# Altium integrated library Diodes - TVS.IntLib: 5379 symbols (part 60 of 122)
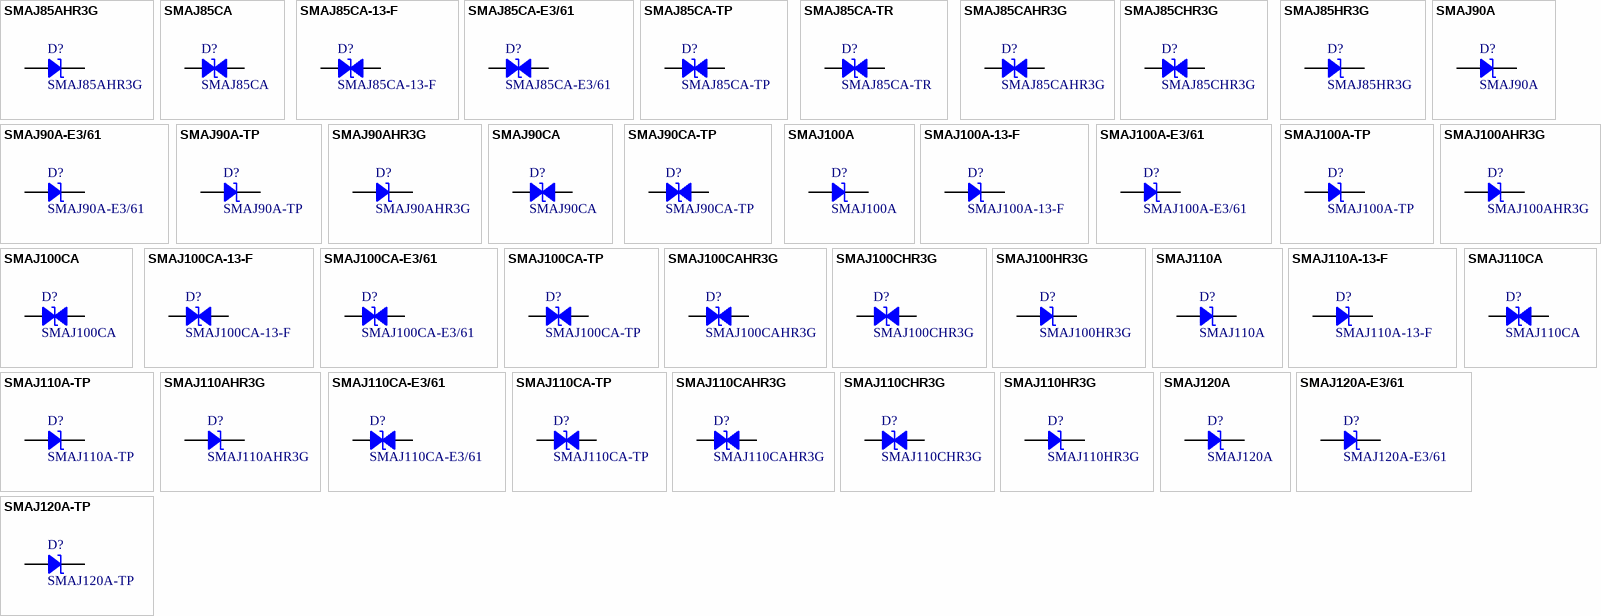
[diagram p193: symbols SMAJ85AHR3G to SMAJ120A-TP]

## SMAJ85CA-TR
designator D?
TVS DIODE 85V 178V SMA; Manufacturer: STMicroelectronics; Bidirectional Channels: 1; Current - Peak Pulse (10/1000µs): 13A (8/20µs); Power Line Protection: No; Power - Peak Pulse: 400W; Type: Zener; Voltage - Breakdown (Min): 94V; Part Number: SMAJ85CA-TR; Applications: General Purpose; ComponentLink1Description: Datasheet; ComponentLink1URL: http://www.st.com/content/ccc/resource/technical/document/datasheet/ff/c0/80/cc/19/4c/45/af/CD00001333.pdf/files/CD00001333.pdf/_jcr_content/translations/en.CD00001333.pdf; ComponentLink2Description: DigiKey Link; ComponentLink2URL: http://digikey.com/product-detail/en/stmicroelectronics/SMAJ85CA-TR/497-7897-1-ND/1883784; LastUpdated: 9/2/2020 1:27:52 AM; Lifecycle Status: Active; Minimum Order: 1; Mounting Type: Surface Mount; Operating Temperature: -55°C ~ 150°C (TJ); Package / Case: DO-214AC, SMA; Packaging: TapeAndReel; PartId: 7451; Part Status: Active; Price: 0.10; Series: SMAJ, TRANSIL™; Supplier 1: DigiKey; Supplier Part Number 1: 497-7897-1-ND; Supplier Device Package: SMA (DO-214AC); Voltage - Clamping (Max) @ Ipp: 178V; Voltage - Reverse Standoff (Typ): 85V
footprint DO214AC SMA
pins: 1, 2

## SMAJ85CAHR3G
designator D?
TVS DIODE 85V 137V DO214AC; Manufacturer: Taiwan Semiconductor Corporation; Bidirectional Channels: 1; Current - Peak Pulse (10/1000µs): 2.2A; Power Line Protection: No; Power - Peak Pulse: 400W; Type: Zener; Voltage - Breakdown (Min): 94.4V; Part Number: SMAJ85CAHR3G; Applications: Automotive; ComponentLink1Description: Datasheet; ComponentLink1URL: https://www.taiwansemi.com/products/datasheet/SMAJ%20SERIES_S1901.pdf; ComponentLink2Description: DigiKey Link; ComponentLink2URL: http://digikey.com/product-detail/en/taiwan-semiconductor-corporation/SMAJ85CAHR3G/SMAJ85CAHR3GCT-ND/10287984; LastUpdated: 9/2/2020 1:27:54 AM; Lifecycle Status: Active; Minimum Order: 1; Mounting Type: Surface Mount; Operating Temperature: -55°C ~ 150°C (TJ); Package / Case: DO-214AC, SMA; Packaging: TapeAndReel; PartId: 7676; Part Status: Active; Price: 0.12; Series: Automotive, AEC-Q101, SMAJ; Supplier 1: DigiKey; Supplier Part Number 1: SMAJ85CAHR3GCT-ND; Supplier Device Package: DO-214AC (SMA); Voltage - Clamping (Max) @ Ipp: 137V; Voltage - Reverse Standoff (Typ): 85V
footprint DO214AC SMA
pins: 1, 2

## SMAJ85CHR3G
designator D?
400W 104.7V 10% BIDIRECTIONAL TV; Manufacturer: Taiwan Semiconductor Corporation; Bidirectional Channels: 1; Current - Peak Pulse (10/1000µs): 2A; Power Line Protection: No; Type: Zener; Voltage - Breakdown (Min): 94.4V; Voltage - Clamping (Max) @ Ipp: 151V; Voltage - Reverse Standoff (Typ): 85V; Part Number: SMAJ85CHR3G; Applications: Automotive; ComponentLink1Description: Datasheet; ComponentLink1URL: https://www.taiwansemi.com/products/datasheet/SMAJ%20SERIES_S1901.pdf; ComponentLink2Description: DigiKey Link; ComponentLink2URL: http://digikey.com/product-detail/en/taiwan-semiconductor-corporation/SMAJ85CHR3G/SMAJ85CHR3GCT-ND/10287887; LastUpdated: 9/2/2020 1:27:54 AM; Lifecycle Status: Active; Minimum Order: 1; Mounting Type: Surface Mount; Operating Temperature: -55°C ~ 150°C (TJ); Package / Case: DO-214AC, SMA; Packaging: TapeAndReel; PartId: 7721; Part Status: Active; Power - Peak Pulse: 400W; Price: 0.11; Series: Automotive, AEC-Q101, SMAJ; Supplier 1: DigiKey; Supplier Part Number 1: SMAJ85CHR3GCT-ND; Supplier Device Package: DO-214AC (SMA)
footprint DO214AC SMA
pins: 1, 2

## SMAJ85HR3G
designator D?
400W 104.7V 10% UNIDIRECTIONAL T; Manufacturer: Taiwan Semiconductor Corporation; Current - Peak Pulse (10/1000µs): 2A; Power Line Protection: No; Type: Zener; Unidirectional Channels: 1; Voltage - Breakdown (Min): 94.4V; Voltage - Clamping (Max) @ Ipp: 151V; Voltage - Reverse Standoff (Typ): 85V; Part Number: SMAJ85HR3G; Applications: Automotive; ComponentLink1Description: Datasheet; ComponentLink1URL: https://www.taiwansemi.com/products/datasheet/SMAJ%20SERIES_S1901.pdf; ComponentLink2Description: DigiKey Link; ComponentLink2URL: http://digikey.com/product-detail/en/taiwan-semiconductor-corporation/SMAJ85HR3G/SMAJ85HR3GCT-ND/10287888; LastUpdated: 9/2/2020 1:20:16 AM; Lifecycle Status: Active; Minimum Order: 1; Mounting Type: Surface Mount; Operating Temperature: -55°C ~ 150°C (TJ); Package / Case: DO-214AC, SMA; Packaging: TapeAndReel; PartId: 5994; Part Status: Active; Power - Peak Pulse: 400W; Price: 0.12; Series: Automotive, AEC-Q101, SMAJ; Supplier 1: DigiKey; Supplier Part Number 1: SMAJ85HR3GCT-ND; Supplier Device Package: DO-214AC (SMA)
footprint DO214AC SMA
pins: 1, 2

## SMAJ90A
designator D?
TVS DIODE 90V 146V SMA; Manufacturer: AVX Corporation; Current - Peak Pulse (10/1000µs): 2.74A; Power Line Protection: No; Power - Peak Pulse: 400W; Type: Zener; Unidirectional Channels: 1; Voltage - Breakdown (Min): 100V; Part Number: SMAJ90A; Applications: General Purpose; ComponentLink1Description: Datasheet; ComponentLink1URL: //media.digikey.com/pdf/Data%20Sheets/AVX%20PDFs/Transient%20Suppression%20Diodes.pdf; ComponentLink2Description: DigiKey Link; ComponentLink2URL: http://digikey.com/product-detail/en/avx-corporation/SMAJ90A/478-7059-1-ND/3340336; LastUpdated: 9/2/2020 1:20:14 AM; Lifecycle Status: Active; Minimum Order: 1; Mounting Type: Surface Mount; Operating Temperature: -55°C ~ 150°C (TJ); Package / Case: DO-214AC, SMA; Packaging: TapeAndReel; PartId: 5678; Part Status: Active; Price: 0.10; Series: -; Supplier 1: DigiKey; Supplier Part Number 1: 478-7059-1-ND; Supplier Device Package: SMAJ (DO-214AC); Voltage - Clamping (Max) @ Ipp: 146V; Voltage - Reverse Standoff (Typ): 90V
footprint DO214AC SMA
pins: 1, 2

## SMAJ90A-E3/61
designator D?
TVS DIODE 90V 146V DO214AC; Manufacturer: Vishay Semiconductor Diodes Division; Current - Peak Pulse (10/1000µs): 2.1A; Power Line Protection: No; Power - Peak Pulse: 300W; Type: Zener; Unidirectional Channels: 1; Voltage - Breakdown (Min): 100V; Part Number: SMAJ90A-E3/61; Applications: General Purpose; ComponentLink1Description: Datasheet; ComponentLink1URL: http://www.vishay.com/docs/88390/smaj50a.pdf; ComponentLink2Description: DigiKey Link; ComponentLink2URL: http://digikey.com/product-detail/en/vishay-semiconductor-diodes-division/SMAJ90A-E3-61/SMAJ90A-E3-61GICT-ND/5639167; LastUpdated: 9/2/2020 1:20:18 AM; Lifecycle Status: Active; Minimum Order: 1; Mounting Type: Surface Mount; Operating Temperature: -55°C ~ 150°C (TJ); Package / Case: DO-214AC, SMA; Packaging: TapeAndReel; PartId: 6150; Part Status: Active; Price: 0.10; Series: TransZorb®; Supplier 1: DigiKey; Supplier Part Number 1: SMAJ90A-E3/61GICT-ND; Supplier Device Package: DO-214AC (SMA); Voltage - Clamping (Max) @ Ipp: 146V; Voltage - Reverse Standoff (Typ): 90V
footprint DO214AC SMA
pins: 1, 2

## SMAJ90A-TP
designator D?
TVS DIODE 90V 146V DO214AC; Manufacturer: Micro Commercial Co; Current - Peak Pulse (10/1000µs): 2.7A; Power Line Protection: No; Power - Peak Pulse: 400W; Type: Zener; Unidirectional Channels: 1; Voltage - Breakdown (Min): 100V; Part Number: SMAJ90A-TP; Applications: General Purpose; ComponentLink1Description: Datasheet; ComponentLink1URL: https://www.mccsemi.com/pdf/Products/SMAJ5.0~SMAJ440CA(SMA).pdf; ComponentLink2Description: DigiKey Link; ComponentLink2URL: http://digikey.com/product-detail/en/micro-commercial-co/SMAJ90A-TP/SMAJ90A-TPMSCT-ND/1200618; LastUpdated: 9/2/2020 1:20:17 AM; Lifecycle Status: Active; Minimum Order: 1; Mounting Type: Surface Mount; Operating Temperature: -55°C ~ 175°C (TA); Package / Case: DO-214AC, SMA; Packaging: TapeAndReel; PartId: 6111; Part Status: Active; Price: 0.10; Series: -; Supplier 1: DigiKey; Supplier Part Number 1: SMAJ90A-TPMSCT-ND; Supplier Device Package: DO-214AC (SMA); Voltage - Clamping (Max) @ Ipp: 146V; Voltage - Reverse Standoff (Typ): 90V
footprint DO214AC SMA
pins: 1, 2

## SMAJ90AHR3G
designator D?
TVS DIODE 90V 146V DO214AC; Manufacturer: Taiwan Semiconductor Corporation; Current - Peak Pulse (10/1000µs): 2.1A; Power Line Protection: No; Power - Peak Pulse: 400W; Type: Zener; Unidirectional Channels: 1; Voltage - Breakdown (Min): 100V; Part Number: SMAJ90AHR3G; Applications: Automotive; ComponentLink1Description: Datasheet; ComponentLink1URL: https://www.taiwansemi.com/products/datasheet/SMAJ%20SERIES_S1901.pdf; ComponentLink2Description: DigiKey Link; ComponentLink2URL: http://digikey.com/product-detail/en/taiwan-semiconductor-corporation/SMAJ90AHR3G/SMAJ90AHR3GCT-ND/10287987; LastUpdated: 9/2/2020 1:20:17 AM; Lifecycle Status: Active; Minimum Order: 1; Mounting Type: Surface Mount; Operating Temperature: -55°C ~ 150°C (TJ); Package / Case: DO-214AC, SMA; Packaging: TapeAndReel; PartId: 6029; Part Status: Active; Price: 0.11; Series: Automotive, AEC-Q101, SMAJ; Supplier 1: DigiKey; Supplier Part Number 1: SMAJ90AHR3GCT-ND; Supplier Device Package: DO-214AC (SMA); Voltage - Clamping (Max) @ Ipp: 146V; Voltage - Reverse Standoff (Typ): 90V
footprint DO214AC SMA
pins: 1, 2

## SMAJ90CA
designator D?
TVS DIODE 90V 146V SMA; Manufacturer: Bourns Inc.; Bidirectional Channels: 1; Current - Peak Pulse (10/1000µs): 2.7A; Power Line Protection: No; Power - Peak Pulse: 400W; Type: Zener; Voltage - Breakdown (Min): 100V; Part Number: SMAJ90CA; Applications: General Purpose; ComponentLink1Description: Datasheet; ComponentLink1URL: https://www.bourns.com/docs/Product-Datasheets/SMAJ.pdf; ComponentLink2Description: DigiKey Link; ComponentLink2URL: http://digikey.com/product-detail/en/bourns-inc/SMAJ90CA/SMAJ90CABCT-ND/2253560; LastUpdated: 9/2/2020 1:27:52 AM; Lifecycle Status: Active; Minimum Order: 1; Mounting Type: Surface Mount; Operating Temperature: -55°C ~ 150°C (TJ); Package / Case: DO-214AC, SMA; Packaging: TapeAndReel; PartId: 7464; Part Status: Active; Price: 0.09; Series: SMAJ; Supplier 1: DigiKey; Supplier Part Number 1: SMAJ90CABCT-ND; Supplier Device Package: SMA (DO-214AC); Voltage - Clamping (Max) @ Ipp: 146V; Voltage - Reverse Standoff (Typ): 90V
footprint DO214AC SMA
pins: 1, 2

## SMAJ90CA-TP
designator D?
TVS DIODE 90V 146V DO214AC; Manufacturer: Micro Commercial Co; Bidirectional Channels: 1; Current - Peak Pulse (10/1000µs): 2.7A; Power Line Protection: No; Power - Peak Pulse: 400W; Type: Zener; Voltage - Breakdown (Min): 100V; Part Number: SMAJ90CA-TP; Applications: General Purpose; ComponentLink1Description: Datasheet; ComponentLink1URL: https://www.mccsemi.com/pdf/Products/SMAJ5.0~SMAJ440CA(SMA).pdf; ComponentLink2Description: DigiKey Link; ComponentLink2URL: http://digikey.com/product-detail/en/micro-commercial-co/SMAJ90CA-TP/SMAJ90CA-TPMSCT-ND/1200619; LastUpdated: 9/2/2020 1:27:54 AM; Lifecycle Status: Active; Minimum Order: 1; Mounting Type: Surface Mount; Operating Temperature: -55°C ~ 175°C (TA); Package / Case: DO-214AC, SMA; Packaging: TapeAndReel; PartId: 7652; Part Status: Active; Price: 0.10; Series: -; Supplier 1: DigiKey; Supplier Part Number 1: SMAJ90CA-TPMSCT-ND; Supplier Device Package: DO-214AC (SMA); Voltage - Clamping (Max) @ Ipp: 146V; Voltage - Reverse Standoff (Typ): 90V
footprint DO214AC SMA
pins: 1, 2

## SMAJ100A
designator D?
TVS DIODE 100V 162V DO214AC; Manufacturer: Littelfuse Inc.; Current - Peak Pulse (10/1000µs): 2.5A; Power Line Protection: No; Power - Peak Pulse: 400W; Type: Zener; Unidirectional Channels: 1; Voltage - Breakdown (Min): 111V; Part Number: SMAJ100A; Applications: General Purpose; ComponentLink1Description: Datasheet; ComponentLink1URL: https://www.littelfuse.com/~/media/electronics/datasheets/tvs_diodes/littelfuse_tvs_diode_smaj_datasheet.pdf.pdf; ComponentLink2Description: DigiKey Link; ComponentLink2URL: http://digikey.com/product-detail/en/littelfuse-inc/SMAJ100A/SMAJ100ALFCT-ND/762538; LastUpdated: 9/2/2020 1:20:14 AM; Lifecycle Status: Active; Minimum Order: 1; Mounting Type: Surface Mount; Operating Temperature: -65°C ~ 150°C (TJ); Package / Case: DO-214AC, SMA; Packaging: TapeAndReel; PartId: 5757; Part Status: Active; Price: 0.09; Series: SMAJ; Supplier 1: DigiKey; Supplier Part Number 1: SMAJ100ALFCT-ND; Supplier Device Package: DO-214AC (SMA); Voltage - Clamping (Max) @ Ipp: 162V; Voltage - Reverse Standoff (Typ): 100V
footprint DO214AC SMA
pins: 1, 2

## SMAJ100A-13-F
designator D?
TVS DIODE 100V 162V SMA; Manufacturer: Diodes Incorporated; Current - Peak Pulse (10/1000µs): 2.5A; Power Line Protection: No; Power - Peak Pulse: 400W; Type: Zener; Unidirectional Channels: 1; Voltage - Breakdown (Min): 111V; Part Number: SMAJ100A-13-F; Applications: General Purpose; ComponentLink1Description: Datasheet; ComponentLink1URL: https://www.diodes.com/assets/Datasheets/ds19005.pdf; ComponentLink2Description: DigiKey Link; ComponentLink2URL: http://digikey.com/product-detail/en/diodes-incorporated/SMAJ100A-13-F/SMAJ100A-FDICT-ND/815994; LastUpdated: 9/2/2020 1:20:16 AM; Lifecycle Status: Active; Minimum Order: 1; Mounting Type: Surface Mount; Operating Temperature: -55°C ~ 150°C (TJ); Package / Case: DO-214AC, SMA; Packaging: TapeAndReel; PartId: 5954; Part Status: Active; Price: 0.08; Series: -; Supplier 1: DigiKey; Supplier Part Number 1: SMAJ100A-FDICT-ND; Supplier Device Package: SMA; Voltage - Clamping (Max) @ Ipp: 162V; Voltage - Reverse Standoff (Typ): 100V
footprint DO214AC SMA
pins: 1, 2

## SMAJ100A-E3/61
designator D?
TVS DIODE 100V 162V DO214AC; Manufacturer: Vishay Semiconductor Diodes Division; Current - Peak Pulse (10/1000µs): 1.9A; Power Line Protection: No; Power - Peak Pulse: 300W; Type: Zener; Unidirectional Channels: 1; Voltage - Breakdown (Min): 111V; Part Number: SMAJ100A-E3/61; Applications: General Purpose; ComponentLink1Description: Datasheet; ComponentLink1URL: http://www.vishay.com/docs/88390/smaj50a.pdf; ComponentLink2Description: DigiKey Link; ComponentLink2URL: http://digikey.com/product-detail/en/vishay-semiconductor-diodes-division/SMAJ100A-E3-61/SMAJ100A-E3-61GICT-ND/3711950; LastUpdated: 9/2/2020 1:20:13 AM; Lifecycle Status: Active; Minimum Order: 1; Mounting Type: Surface Mount; Operating Temperature: -55°C ~ 150°C (TJ); Package / Case: DO-214AC, SMA; Packaging: TapeAndReel; PartId: 5604; Part Status: Active; Price: 0.10; Series: TransZorb®; Supplier 1: DigiKey; Supplier Part Number 1: SMAJ100A-E3/61GICT-ND; Supplier Device Package: DO-214AC (SMA); Voltage - Clamping (Max) @ Ipp: 162V; Voltage - Reverse Standoff (Typ): 100V
footprint DO214AC SMA
pins: 1, 2

## SMAJ100A-TP
designator D?
TVS DIODE 100V 162V DO214AC; Manufacturer: Micro Commercial Co; Current - Peak Pulse (10/1000µs): 2.5A; Power Line Protection: No; Power - Peak Pulse: 400W; Type: Zener; Unidirectional Channels: 1; Voltage - Breakdown (Min): 111V; Part Number: SMAJ100A-TP; Applications: General Purpose; ComponentLink1Description: Datasheet; ComponentLink1URL: https://www.mccsemi.com/pdf/Products/SMAJ5.0~SMAJ440CA(SMA).pdf; ComponentLink2Description: DigiKey Link; ComponentLink2URL: http://digikey.com/product-detail/en/micro-commercial-co/SMAJ100A-TP/SMAJ100A-TPMSCT-ND/1200620; LastUpdated: 9/2/2020 1:20:15 AM; Lifecycle Status: Active; Minimum Order: 1; Mounting Type: Surface Mount; Operating Temperature: -55°C ~ 175°C (TA); Package / Case: DO-214AC, SMA; Packaging: TapeAndReel; PartId: 5784; Part Status: Active; Price: 0.10; Series: -; Supplier 1: DigiKey; Supplier Part Number 1: SMAJ100A-TPMSCT-ND; Supplier Device Package: DO-214AC (SMA); Voltage - Clamping (Max) @ Ipp: 162V; Voltage - Reverse Standoff (Typ): 100V
footprint DO214AC SMA
pins: 1, 2

## SMAJ100AHR3G
designator D?
TVS DIODE 100V 162V DO214AC; Manufacturer: Taiwan Semiconductor Corporation; Current - Peak Pulse (10/1000µs): 1.9A; Power Line Protection: No; Power - Peak Pulse: 400W; Type: Zener; Unidirectional Channels: 1; Voltage - Breakdown (Min): 111V; Part Number: SMAJ100AHR3G; Applications: Automotive; ComponentLink1Description: Datasheet; ComponentLink1URL: https://www.taiwansemi.com/products/datasheet/SMAJ%20SERIES_S1901.pdf; ComponentLink2Description: DigiKey Link; ComponentLink2URL: http://digikey.com/product-detail/en/taiwan-semiconductor-corporation/SMAJ100AHR3G/SMAJ100AHR3GCT-ND/10287895; LastUpdated: 9/2/2020 1:20:17 AM; Lifecycle Status: Active; Minimum Order: 1; Mounting Type: Surface Mount; Operating Temperature: -55°C ~ 150°C (TJ); Package / Case: DO-214AC, SMA; Packaging: TapeAndReel; PartId: 6074; Part Status: Active; Price: 0.11; Series: Automotive, AEC-Q101, SMAJ; Supplier 1: DigiKey; Supplier Part Number 1: SMAJ100AHR3GCT-ND; Supplier Device Package: DO-214AC (SMA); Voltage - Clamping (Max) @ Ipp: 162V; Voltage - Reverse Standoff (Typ): 100V
footprint DO214AC SMA
pins: 1, 2

## SMAJ100CA
designator D?
TVS DIODE 100V 162V DO214AC; Manufacturer: Littelfuse Inc.; Bidirectional Channels: 1; Current - Peak Pulse (10/1000µs): 2.5A; Power Line Protection: No; Power - Peak Pulse: 400W; Type: Zener; Voltage - Breakdown (Min): 111V; Part Number: SMAJ100CA; Applications: General Purpose; ComponentLink1Description: Datasheet; ComponentLink1URL: https://www.littelfuse.com/~/media/electronics/datasheets/tvs_diodes/littelfuse_tvs_diode_smaj_datasheet.pdf.pdf; ComponentLink2Description: DigiKey Link; ComponentLink2URL: http://digikey.com/product-detail/en/littelfuse-inc/SMAJ100CA/SMAJ100CALFCT-ND/762539; LastUpdated: 9/2/2020 1:27:52 AM; Lifecycle Status: Active; Minimum Order: 1; Mounting Type: Surface Mount; Operating Temperature: -65°C ~ 150°C (TJ); Package / Case: DO-214AC, SMA; Packaging: TapeAndReel; PartId: 7479; Part Status: Active; Price: 0.09; Series: SMAJ; Supplier 1: DigiKey; Supplier Part Number 1: SMAJ100CALFCT-ND; Supplier Device Package: DO-214AC (SMA); Voltage - Clamping (Max) @ Ipp: 162V; Voltage - Reverse Standoff (Typ): 100V
footprint DO214AC SMA
pins: 1, 2

## SMAJ100CA-13-F
designator D?
TVS DIODE 100V 162V SMA; Manufacturer: Diodes Incorporated; Bidirectional Channels: 1; Current - Peak Pulse (10/1000µs): 2.5A; Power Line Protection: No; Power - Peak Pulse: 400W; Type: Zener; Voltage - Breakdown (Min): 111V; Part Number: SMAJ100CA-13-F; Applications: General Purpose; ComponentLink1Description: Datasheet; ComponentLink1URL: https://www.diodes.com/assets/Datasheets/ds19005.pdf; ComponentLink2Description: DigiKey Link; ComponentLink2URL: http://digikey.com/product-detail/en/diodes-incorporated/SMAJ100CA-13-F/SMAJ100CA-FDICT-ND/815995; LastUpdated: 9/2/2020 1:27:55 AM; Lifecycle Status: Active; Minimum Order: 1; Mounting Type: Surface Mount; Operating Temperature: -55°C ~ 150°C (TJ); Package / Case: DO-214AC, SMA; Packaging: TapeAndReel; PartId: 7789; Part Status: Active; Price: 0.09; Series: -; Supplier 1: DigiKey; Supplier Part Number 1: SMAJ100CA-FDICT-ND; Supplier Device Package: SMA; Voltage - Clamping (Max) @ Ipp: 162V; Voltage - Reverse Standoff (Typ): 100V
footprint DO214AC SMA
pins: 1, 2

## SMAJ100CA-E3/61
designator D?
TVS DIODE 100V 162V DO214AC; Manufacturer: Vishay Semiconductor Diodes Division; Bidirectional Channels: 1; Current - Peak Pulse (10/1000µs): 1.9A; Power Line Protection: No; Power - Peak Pulse: 300W; Type: Zener; Voltage - Breakdown (Min): 111V; Part Number: SMAJ100CA-E3/61; Applications: General Purpose; ComponentLink1Description: Datasheet; ComponentLink1URL: http://www.vishay.com/docs/88390/smaj50a.pdf; ComponentLink2Description: DigiKey Link; ComponentLink2URL: http://digikey.com/product-detail/en/vishay-semiconductor-diodes-division/SMAJ100CA-E3-61/SMAJ100CA-E3-61GICT-ND/4764812; LastUpdated: 9/2/2020 1:27:50 AM; Lifecycle Status: Active; Minimum Order: 1; Mounting Type: Surface Mount; Operating Temperature: -55°C ~ 150°C (TJ); Package / Case: DO-214AC, SMA; Packaging: TapeAndReel; PartId: 7301; Part Status: Active; Price: 0.10; Series: TransZorb®; Supplier 1: DigiKey; Supplier Part Number 1: SMAJ100CA-E3/61GICT-ND; Supplier Device Package: DO-214AC (SMA); Voltage - Clamping (Max) @ Ipp: 162V; Voltage - Reverse Standoff (Typ): 100V
footprint DO214AC SMA
pins: 1, 2

## SMAJ100CA-TP
designator D?
TVS DIODE 100V 162V DO214AC; Manufacturer: Micro Commercial Co; Bidirectional Channels: 1; Current - Peak Pulse (10/1000µs): 2.5A; Power Line Protection: No; Power - Peak Pulse: 400W; Type: Zener; Voltage - Breakdown (Min): 111V; Part Number: SMAJ100CA-TP; Applications: General Purpose; ComponentLink1Description: Datasheet; ComponentLink1URL: https://www.mccsemi.com/pdf/Products/SMAJ5.0~SMAJ440CA(SMA).pdf; ComponentLink2Description: DigiKey Link; ComponentLink2URL: http://digikey.com/product-detail/en/micro-commercial-co/SMAJ100CA-TP/SMAJ100CA-TPMSCT-ND/1200621; LastUpdated: 9/2/2020 1:27:53 AM; Lifecycle Status: Active; Minimum Order: 1; Mounting Type: Surface Mount; Operating Temperature: -55°C ~ 175°C (TA); Package / Case: DO-214AC, SMA; Packaging: TapeAndReel; PartId: 7640; Part Status: Active; Price: 0.10; Series: -; Supplier 1: DigiKey; Supplier Part Number 1: SMAJ100CA-TPMSCT-ND; Supplier Device Package: DO-214AC (SMA); Voltage - Clamping (Max) @ Ipp: 162V; Voltage - Reverse Standoff (Typ): 100V
footprint DO214AC SMA
pins: 1, 2

## SMAJ100CAHR3G
designator D?
TVS DIODE 100V 162V DO214AC; Manufacturer: Taiwan Semiconductor Corporation; Bidirectional Channels: 1; Current - Peak Pulse (10/1000µs): 1.9A; Power Line Protection: No; Power - Peak Pulse: 400W; Type: Zener; Voltage - Breakdown (Min): 111V; Part Number: SMAJ100CAHR3G; Applications: Automotive; ComponentLink1Description: Datasheet; ComponentLink1URL: https://www.taiwansemi.com/products/datasheet/SMAJ%20SERIES_S1901.pdf; ComponentLink2Description: DigiKey Link; ComponentLink2URL: http://digikey.com/product-detail/en/taiwan-semiconductor-corporation/SMAJ100CAHR3G/SMAJ100CAHR3GCT-ND/10287896; LastUpdated: 9/2/2020 1:27:54 AM; Lifecycle Status: Active; Minimum Order: 1; Mounting Type: Surface Mount; Operating Temperature: -55°C ~ 150°C (TJ); Package / Case: DO-214AC, SMA; Packaging: TapeAndReel; PartId: 7718; Part Status: Active; Price: 0.12; Series: Automotive, AEC-Q101, SMAJ; Supplier 1: DigiKey; Supplier Part Number 1: SMAJ100CAHR3GCT-ND; Supplier Device Package: DO-214AC (SMA); Voltage - Clamping (Max) @ Ipp: 162V; Voltage - Reverse Standoff (Typ): 100V
footprint DO214AC SMA
pins: 1, 2

## SMAJ100CHR3G
designator D?
400W 123.5V 10% BIDIRECTIONAL TV; Manufacturer: Taiwan Semiconductor Corporation; Bidirectional Channels: 1; Current - Peak Pulse (10/1000µs): 1.7A; Power Line Protection: No; Type: Zener; Voltage - Breakdown (Min): 111V; Voltage - Clamping (Max) @ Ipp: 179V; Voltage - Reverse Standoff (Typ): 100V; Part Number: SMAJ100CHR3G; Applications: Automotive; ComponentLink1Description: Datasheet; ComponentLink1URL: https://www.taiwansemi.com/products/datasheet/SMAJ%20SERIES_S1901.pdf; ComponentLink2Description: DigiKey Link; ComponentLink2URL: http://digikey.com/product-detail/en/taiwan-semiconductor-corporation/SMAJ100CHR3G/SMAJ100CHR3GCT-ND/10287813; LastUpdated: 9/2/2020 1:27:54 AM; Lifecycle Status: Active; Minimum Order: 1; Mounting Type: Surface Mount; Operating Temperature: -55°C ~ 150°C (TJ); Package / Case: DO-214AC, SMA; Packaging: TapeAndReel; PartId: 7756; Part Status: Active; Power - Peak Pulse: 400W; Price: 0.11; Series: Automotive, AEC-Q101, SMAJ; Supplier 1: DigiKey; Supplier Part Number 1: SMAJ100CHR3GCT-ND; Supplier Device Package: DO-214AC (SMA)
footprint DO214AC SMA
pins: 1, 2

## SMAJ100HR3G
designator D?
400W 123.5V 10% UNIDIRECTIONAL T; Manufacturer: Taiwan Semiconductor Corporation; Current - Peak Pulse (10/1000µs): 1.7A; Power Line Protection: No; Type: Zener; Unidirectional Channels: 1; Voltage - Breakdown (Min): 111V; Voltage - Clamping (Max) @ Ipp: 179V; Voltage - Reverse Standoff (Typ): 100V; Part Number: SMAJ100HR3G; Applications: Automotive; ComponentLink1Description: Datasheet; ComponentLink1URL: https://www.taiwansemi.com/products/datasheet/SMAJ%20SERIES_S1901.pdf; ComponentLink2Description: DigiKey Link; ComponentLink2URL: http://digikey.com/product-detail/en/taiwan-semiconductor-corporation/SMAJ100HR3G/SMAJ100HR3GCT-ND/10287814; LastUpdated: 9/2/2020 1:20:17 AM; Lifecycle Status: Active; Minimum Order: 1; Mounting Type: Surface Mount; Operating Temperature: -55°C ~ 150°C (TJ); Package / Case: DO-214AC, SMA; Packaging: TapeAndReel; PartId: 6026; Part Status: Active; Power - Peak Pulse: 400W; Price: 0.12; Series: Automotive, AEC-Q101, SMAJ; Supplier 1: DigiKey; Supplier Part Number 1: SMAJ100HR3GCT-ND; Supplier Device Package: DO-214AC (SMA)
footprint DO214AC SMA
pins: 1, 2

## SMAJ110A
designator D?
TVS DIODE 110V 177V SMA; Manufacturer: Bourns Inc.; Current - Peak Pulse (10/1000µs): 2.3A; Power Line Protection: No; Power - Peak Pulse: 400W; Type: Zener; Unidirectional Channels: 1; Voltage - Breakdown (Min): 122V; Part Number: SMAJ110A; Applications: General Purpose; ComponentLink1Description: Datasheet; ComponentLink1URL: https://www.bourns.com/docs/Product-Datasheets/SMAJ.pdf; ComponentLink2Description: DigiKey Link; ComponentLink2URL: http://digikey.com/product-detail/en/bourns-inc/SMAJ110A/SMAJ110ABCT-ND/2256077; LastUpdated: 9/2/2020 1:20:15 AM; Lifecycle Status: Active; Minimum Order: 1; Mounting Type: Surface Mount; Operating Temperature: -55°C ~ 150°C (TJ); Package / Case: DO-214AC, SMA; Packaging: TapeAndReel; PartId: 5854; Part Status: Active; Price: 0.09; Series: SMAJ; Supplier 1: DigiKey; Supplier Part Number 1: SMAJ110ABCT-ND; Supplier Device Package: SMA (DO-214AC); Voltage - Clamping (Max) @ Ipp: 177V; Voltage - Reverse Standoff (Typ): 110V
footprint DO214AC SMA
pins: 1, 2

## SMAJ110A-13-F
designator D?
TVS DIODE 110V 177V SMA; Manufacturer: Diodes Incorporated; Part Number: SMAJ110A-13-F; ComponentLink1Description: Datasheet; ComponentLink1URL: https://www.diodes.com/assets/Datasheets/ds19005.pdf; ComponentLink2Description: DigiKey Link; ComponentLink2URL: http://digikey.com/product-detail/en/diodes-incorporated/SMAJ110A-13-F/SMAJ110A-FDICT-ND/815996; LastUpdated: 9/2/2020 1:20:15 AM; Lifecycle Status: Active; Minimum Order: 0; Packaging: TapeAndReel; PartId: 5845; Part Status: Active; Price: 0.20; Series: -; Supplier 1: DigiKey; Supplier Part Number 1: SMAJ110A-FDICT-ND
footprint DO214AC SMA
pins: 1, 2

## SMAJ110A-TP
designator D?
TVS DIODE 110V 177V DO214AC; Manufacturer: Micro Commercial Co; Current - Peak Pulse (10/1000µs): 2.3A; Power Line Protection: No; Power - Peak Pulse: 400W; Type: Zener; Unidirectional Channels: 1; Voltage - Breakdown (Min): 122V; Part Number: SMAJ110A-TP; Applications: General Purpose; ComponentLink1Description: Datasheet; ComponentLink1URL: https://www.mccsemi.com/pdf/Products/SMAJ5.0~SMAJ440CA(SMA).pdf; ComponentLink2Description: DigiKey Link; ComponentLink2URL: http://digikey.com/product-detail/en/micro-commercial-co/SMAJ110A-TP/SMAJ110A-TPMSCT-ND/1200622; LastUpdated: 9/2/2020 1:20:18 AM; Lifecycle Status: Active; Minimum Order: 1; Mounting Type: Surface Mount; Operating Temperature: -55°C ~ 175°C (TA); Package / Case: DO-214AC, SMA; Packaging: TapeAndReel; PartId: 6116; Part Status: Active; Price: 0.10; Series: -; Supplier 1: DigiKey; Supplier Part Number 1: SMAJ110A-TPMSCT-ND; Supplier Device Package: DO-214AC (SMA); Voltage - Clamping (Max) @ Ipp: 177V; Voltage - Reverse Standoff (Typ): 110V
footprint DO214AC SMA
pins: 1, 2

## SMAJ110AHR3G
designator D?
TVS DIODE 110V 177V DO214AC; Manufacturer: Taiwan Semiconductor Corporation; Current - Peak Pulse (10/1000µs): 1.7A; Power Line Protection: No; Power - Peak Pulse: 400W; Type: Zener; Unidirectional Channels: 1; Voltage - Breakdown (Min): 122V; Part Number: SMAJ110AHR3G; Applications: Automotive; ComponentLink1Description: Datasheet; ComponentLink1URL: https://www.taiwansemi.com/products/datasheet/SMAJ%20SERIES_S1901.pdf; ComponentLink2Description: DigiKey Link; ComponentLink2URL: http://digikey.com/product-detail/en/taiwan-semiconductor-corporation/SMAJ110AHR3G/SMAJ110AHR3GCT-ND/10287899; LastUpdated: 9/2/2020 1:20:17 AM; Lifecycle Status: Active; Minimum Order: 1; Mounting Type: Surface Mount; Operating Temperature: -55°C ~ 150°C (TJ); Package / Case: DO-214AC, SMA; Packaging: TapeAndReel; PartId: 6072; Part Status: Active; Price: 0.11; Series: Automotive, AEC-Q101, SMAJ; Supplier 1: DigiKey; Supplier Part Number 1: SMAJ110AHR3GCT-ND; Supplier Device Package: DO-214AC (SMA); Voltage - Clamping (Max) @ Ipp: 177V; Voltage - Reverse Standoff (Typ): 110V
footprint DO214AC SMA
pins: 1, 2

## SMAJ110CA
designator D?
TVS DIODE 110V 177V SMA; Manufacturer: Bourns Inc.; Bidirectional Channels: 1; Current - Peak Pulse (10/1000µs): 2.3A; Power Line Protection: No; Power - Peak Pulse: 400W; Type: Zener; Voltage - Breakdown (Min): 122V; Part Number: SMAJ110CA; Applications: General Purpose; ComponentLink1Description: Datasheet; ComponentLink1URL: https://www.bourns.com/docs/Product-Datasheets/SMAJ.pdf; ComponentLink2Description: DigiKey Link; ComponentLink2URL: http://digikey.com/product-detail/en/bourns-inc/SMAJ110CA/SMAJ110CABCT-ND/2253564; LastUpdated: 9/2/2020 1:27:52 AM; Lifecycle Status: Active; Minimum Order: 1; Mounting Type: Surface Mount; Operating Temperature: -55°C ~ 150°C (TJ); Package / Case: DO-214AC, SMA; Packaging: TapeAndReel; PartId: 7461; Part Status: Active; Price: 0.09; Series: SMAJ; Supplier 1: DigiKey; Supplier Part Number 1: SMAJ110CABCT-ND; Supplier Device Package: SMA (DO-214AC); Voltage - Clamping (Max) @ Ipp: 177V; Voltage - Reverse Standoff (Typ): 110V
footprint DO214AC SMA
pins: 1, 2

## SMAJ110CA-E3/61
designator D?
TVS DIODE 110V 177V DO214AC; Manufacturer: Vishay Semiconductor Diodes Division; Bidirectional Channels: 1; Current - Peak Pulse (10/1000µs): 1.7A; Power Line Protection: No; Power - Peak Pulse: 300W; Type: Zener; Voltage - Breakdown (Min): 122V; Part Number: SMAJ110CA-E3/61; Applications: General Purpose; ComponentLink1Description: Datasheet; ComponentLink1URL: http://www.vishay.com/docs/88390/smaj50a.pdf; ComponentLink2Description: DigiKey Link; ComponentLink2URL: http://digikey.com/product-detail/en/vishay-semiconductor-diodes-division/SMAJ110CA-E3-61/SMAJ110CA-E3-61GICT-ND/3847618; LastUpdated: 9/2/2020 1:27:55 AM; Lifecycle Status: Active; Minimum Order: 1; Mounting Type: Surface Mount; Operating Temperature: -55°C ~ 150°C (TJ); Package / Case: DO-214AC, SMA; Packaging: TapeAndReel; PartId: 7836; Part Status: Active; Price: 0.10; Series: TransZorb®; Supplier 1: DigiKey; Supplier Part Number 1: SMAJ110CA-E3/61GICT-ND; Supplier Device Package: DO-214AC (SMA); Voltage - Clamping (Max) @ Ipp: 177V; Voltage - Reverse Standoff (Typ): 110V
footprint DO214AC SMA
pins: 1, 2

## SMAJ110CA-TP
designator D?
TVS DIODE 110V 177V DO214AC; Manufacturer: Micro Commercial Co; Bidirectional Channels: 1; Current - Peak Pulse (10/1000µs): 2.3A; Power Line Protection: No; Power - Peak Pulse: 400W; Type: Zener; Voltage - Breakdown (Min): 122V; Part Number: SMAJ110CA-TP; Applications: General Purpose; ComponentLink1Description: Datasheet; ComponentLink1URL: https://www.mccsemi.com/pdf/Products/SMAJ5.0~SMAJ440CA(SMA)-J.pdf; ComponentLink2Description: DigiKey Link; ComponentLink2URL: http://digikey.com/product-detail/en/micro-commercial-co/SMAJ110CA-TP/SMAJ110CA-TPMSCT-ND/1200623; LastUpdated: 9/2/2020 1:27:52 AM; Lifecycle Status: Active; Minimum Order: 1; Mounting Type: Surface Mount; Operating Temperature: -55°C ~ 175°C (TA); Package / Case: DO-214AC, SMA; Packaging: TapeAndReel; PartId: 7439; Part Status: Active; Price: 0.10; Series: -; Supplier 1: DigiKey; Supplier Part Number 1: SMAJ110CA-TPMSCT-ND; Supplier Device Package: DO-214AC (SMA); Voltage - Clamping (Max) @ Ipp: 177V; Voltage - Reverse Standoff (Typ): 110V
footprint DO214AC SMA
pins: 1, 2

## SMAJ110CAHR3G
designator D?
TVS DIODE 110V 177V DO214AC; Manufacturer: Taiwan Semiconductor Corporation; Bidirectional Channels: 1; Current - Peak Pulse (10/1000µs): 1.7A; Power Line Protection: No; Power - Peak Pulse: 400W; Type: Zener; Voltage - Breakdown (Min): 122V; Part Number: SMAJ110CAHR3G; Applications: Automotive; ComponentLink1Description: Datasheet; ComponentLink1URL: https://www.taiwansemi.com/products/datasheet/SMAJ%20SERIES_S1901.pdf; ComponentLink2Description: DigiKey Link; ComponentLink2URL: http://digikey.com/product-detail/en/taiwan-semiconductor-corporation/SMAJ110CAHR3G/SMAJ110CAHR3GCT-ND/10287900; LastUpdated: 9/2/2020 1:27:54 AM; Lifecycle Status: Active; Minimum Order: 1; Mounting Type: Surface Mount; Operating Temperature: -55°C ~ 150°C (TJ); Package / Case: DO-214AC, SMA; Packaging: TapeAndReel; PartId: 7717; Part Status: Active; Price: 0.12; Series: Automotive, AEC-Q101, SMAJ; Supplier 1: DigiKey; Supplier Part Number 1: SMAJ110CAHR3GCT-ND; Supplier Device Package: DO-214AC (SMA); Voltage - Clamping (Max) @ Ipp: 177V; Voltage - Reverse Standoff (Typ): 110V
footprint DO214AC SMA
pins: 1, 2

## SMAJ110CHR3G
designator D?
400W 135.5V 10% BIDIRECTIONAL TV; Manufacturer: Taiwan Semiconductor Corporation; Bidirectional Channels: 1; Current - Peak Pulse (10/1000µs): 1.6A; Power Line Protection: No; Type: Zener; Voltage - Breakdown (Min): 122V; Voltage - Clamping (Max) @ Ipp: 196V; Voltage - Reverse Standoff (Typ): 110V; Part Number: SMAJ110CHR3G; Applications: Automotive; ComponentLink1Description: Datasheet; ComponentLink1URL: https://www.taiwansemi.com/products/datasheet/SMAJ%20SERIES_S1901.pdf; ComponentLink2Description: DigiKey Link; ComponentLink2URL: http://digikey.com/product-detail/en/taiwan-semiconductor-corporation/SMAJ110CHR3G/SMAJ110CHR3GCT-ND/10287817; LastUpdated: 9/2/2020 1:27:54 AM; Lifecycle Status: Active; Minimum Order: 1; Mounting Type: Surface Mount; Operating Temperature: -55°C ~ 150°C (TJ); Package / Case: DO-214AC, SMA; Packaging: TapeAndReel; PartId: 7754; Part Status: Active; Power - Peak Pulse: 400W; Price: 0.11; Series: Automotive, AEC-Q101, SMAJ; Supplier 1: DigiKey; Supplier Part Number 1: SMAJ110CHR3GCT-ND; Supplier Device Package: DO-214AC (SMA)
footprint DO214AC SMA
pins: 1, 2

## SMAJ110HR3G
designator D?
400W 135.5V 10% UNIDIRECTIONAL T; Manufacturer: Taiwan Semiconductor Corporation; Current - Peak Pulse (10/1000µs): 1.6A; Power Line Protection: No; Type: Zener; Unidirectional Channels: 1; Voltage - Breakdown (Min): 122V; Voltage - Clamping (Max) @ Ipp: 196V; Voltage - Reverse Standoff (Typ): 110V; Part Number: SMAJ110HR3G; Applications: Automotive; ComponentLink1Description: Datasheet; ComponentLink1URL: https://www.taiwansemi.com/products/datasheet/SMAJ%20SERIES_S1901.pdf; ComponentLink2Description: DigiKey Link; ComponentLink2URL: http://digikey.com/product-detail/en/taiwan-semiconductor-corporation/SMAJ110HR3G/SMAJ110HR3GCT-ND/10287818; LastUpdated: 9/2/2020 1:20:17 AM; Lifecycle Status: Active; Minimum Order: 1; Mounting Type: Surface Mount; Operating Temperature: -55°C ~ 150°C (TJ); Package / Case: DO-214AC, SMA; Packaging: TapeAndReel; PartId: 6024; Part Status: Active; Power - Peak Pulse: 400W; Price: 0.12; Series: Automotive, AEC-Q101, SMAJ; Supplier 1: DigiKey; Supplier Part Number 1: SMAJ110HR3GCT-ND; Supplier Device Package: DO-214AC (SMA)
footprint DO214AC SMA
pins: 1, 2

## SMAJ120A
designator D?
TVS DIODE 120V 193V DO214AC; Manufacturer: Littelfuse Inc.; Current - Peak Pulse (10/1000µs): 2.1A; Power Line Protection: No; Power - Peak Pulse: 400W; Type: Zener; Unidirectional Channels: 1; Voltage - Breakdown (Min): 133V; Part Number: SMAJ120A; Applications: General Purpose; ComponentLink1Description: Datasheet; ComponentLink1URL: https://www.littelfuse.com/~/media/electronics/datasheets/tvs_diodes/littelfuse_tvs_diode_smaj_datasheet.pdf.pdf; ComponentLink2Description: DigiKey Link; ComponentLink2URL: http://digikey.com/product-detail/en/littelfuse-inc/SMAJ120A/SMAJ120ALFCT-ND/762542; LastUpdated: 9/2/2020 1:20:14 AM; Lifecycle Status: Active; Minimum Order: 1; Mounting Type: Surface Mount; Operating Temperature: -65°C ~ 150°C (TJ); Package / Case: DO-214AC, SMA; Packaging: TapeAndReel; PartId: 5745; Part Status: Active; Price: 0.10; Series: SMAJ; Supplier 1: DigiKey; Supplier Part Number 1: SMAJ120ALFCT-ND; Supplier Device Package: DO-214AC (SMA); Voltage - Clamping (Max) @ Ipp: 193V; Voltage - Reverse Standoff (Typ): 120V
footprint DO214AC SMA
pins: 1, 2

## SMAJ120A-E3/61
designator D?
TVS DIODE 120V 193V DO214AC; Manufacturer: Vishay Semiconductor Diodes Division; Current - Peak Pulse (10/1000µs): 1.6A; Power Line Protection: No; Power - Peak Pulse: 300W; Type: Zener; Unidirectional Channels: 1; Voltage - Breakdown (Min): 133V; Part Number: SMAJ120A-E3/61; Applications: General Purpose; ComponentLink1Description: Datasheet; ComponentLink1URL: http://www.vishay.com/docs/88390/smaj50a.pdf; ComponentLink2Description: DigiKey Link; ComponentLink2URL: http://digikey.com/product-detail/en/vishay-semiconductor-diodes-division/SMAJ120A-E3-61/SMAJ120A-E3-61GICT-ND/5639146; LastUpdated: 9/2/2020 1:20:14 AM; Lifecycle Status: Active; Minimum Order: 1; Mounting Type: Surface Mount; Operating Temperature: -55°C ~ 150°C (TJ); Package / Case: DO-214AC, SMA; Packaging: TapeAndReel; PartId: 5656; Part Status: Active; Price: 0.10; Series: TransZorb®; Supplier 1: DigiKey; Supplier Part Number 1: SMAJ120A-E3/61GICT-ND; Supplier Device Package: DO-214AC (SMA); Voltage - Clamping (Max) @ Ipp: 193V; Voltage - Reverse Standoff (Typ): 120V
footprint DO214AC SMA
pins: 1, 2

## SMAJ120A-TP
designator D?
TVS DIODE 120V 193V DO214AC; Manufacturer: Micro Commercial Co; Current - Peak Pulse (10/1000µs): 2.1A; Power Line Protection: No; Power - Peak Pulse: 400W; Type: Zener; Unidirectional Channels: 1; Voltage - Breakdown (Min): 133V; Part Number: SMAJ120A-TP; Applications: General Purpose; ComponentLink1Description: Datasheet; ComponentLink1URL: https://www.mccsemi.com/pdf/Products/SMAJ5.0~SMAJ440CA(SMA).pdf; ComponentLink2Description: DigiKey Link; ComponentLink2URL: http://digikey.com/product-detail/en/micro-commercial-co/SMAJ120A-TP/SMAJ120A-TPMSCT-ND/1200624; LastUpdated: 9/2/2020 1:20:15 AM; Lifecycle Status: Active; Minimum Order: 1; Mounting Type: Surface Mount; Operating Temperature: -55°C ~ 175°C (TA); Package / Case: DO-214AC, SMA; Packaging: TapeAndReel; PartId: 5802; Part Status: Active; Price: 0.10; Series: -; Supplier 1: DigiKey; Supplier Part Number 1: SMAJ120A-TPMSCT-ND; Supplier Device Package: DO-214AC (SMA); Voltage - Clamping (Max) @ Ipp: 193V; Voltage - Reverse Standoff (Typ): 120V
footprint DO214AC SMA
pins: 1, 2

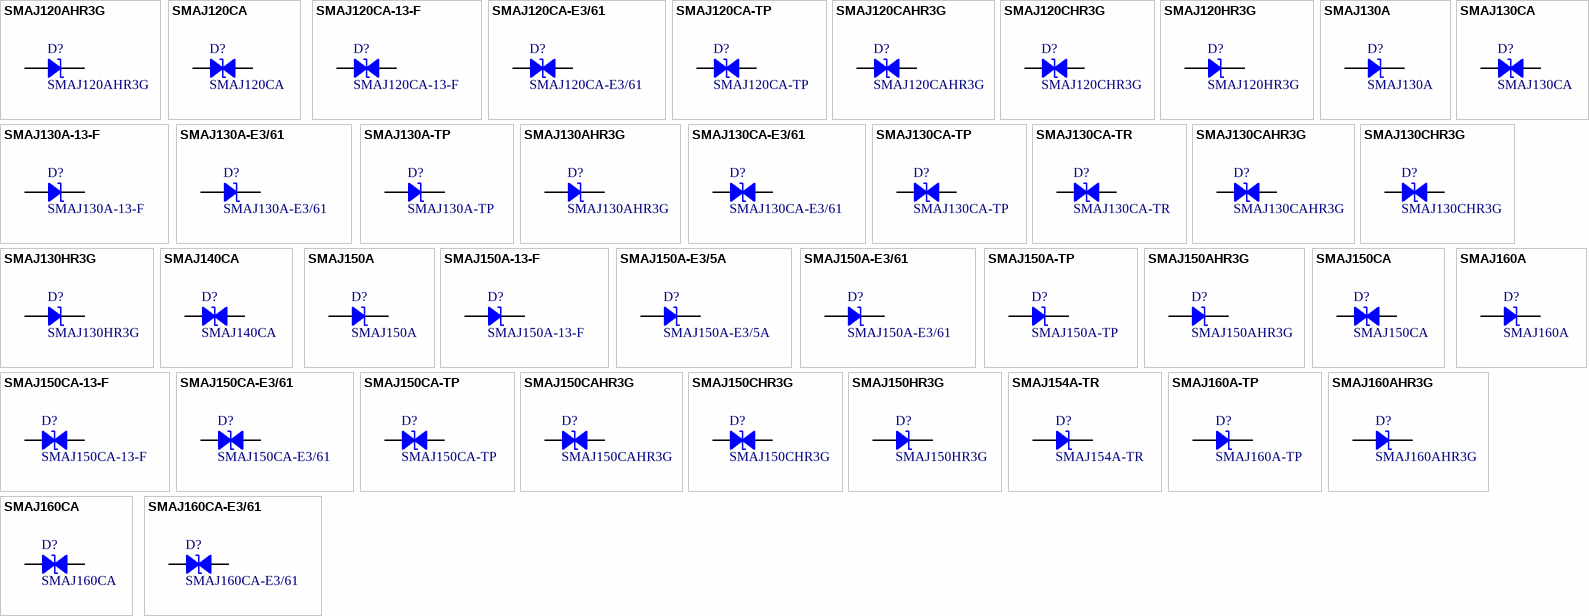
[diagram p66: symbols SMAJ120AHR3G to SMAJ160CA-E3/61]

## SMAJ120AHR3G
designator D?
TVS DIODE 120V 193V DO214AC; Manufacturer: Taiwan Semiconductor Corporation; Current - Peak Pulse (10/1000µs): 1.6A; Power Line Protection: No; Power - Peak Pulse: 400W; Type: Zener; Unidirectional Channels: 1; Voltage - Breakdown (Min): 133V; Part Number: SMAJ120AHR3G; Applications: Automotive; ComponentLink1Description: Datasheet; ComponentLink1URL: https://www.taiwansemi.com/products/datasheet/SMAJ%20SERIES_S1901.pdf; ComponentLink2Description: DigiKey Link; ComponentLink2URL: http://digikey.com/product-detail/en/taiwan-semiconductor-corporation/SMAJ120AHR3G/SMAJ120AHR3GCT-ND/10287903; LastUpdated: 9/2/2020 1:20:17 AM; Lifecycle Status: Active; Minimum Order: 1; Mounting Type: Surface Mount; Operating Temperature: -55°C ~ 150°C (TJ); Package / Case: DO-214AC, SMA; Packaging: TapeAndReel; PartId: 6037; Part Status: Active; Price: 0.11; Series: Automotive, AEC-Q101, SMAJ; Supplier 1: DigiKey; Supplier Part Number 1: SMAJ120AHR3GCT-ND; Supplier Device Package: DO-214AC (SMA); Voltage - Clamping (Max) @ Ipp: 193V; Voltage - Reverse Standoff (Typ): 120V
footprint DO214AC SMA
pins: 1, 2

## SMAJ120CA
designator D?
TVS DIODE 120V 193V SMA; Manufacturer: Bourns Inc.; Bidirectional Channels: 1; Current - Peak Pulse (10/1000µs): 2.1A; Power Line Protection: No; Power - Peak Pulse: 400W; Type: Zener; Voltage - Breakdown (Min): 133V; Part Number: SMAJ120CA; Applications: General Purpose; ComponentLink1Description: Datasheet; ComponentLink1URL: https://www.bourns.com/docs/Product-Datasheets/SMAJ.pdf; ComponentLink2Description: DigiKey Link; ComponentLink2URL: http://digikey.com/product-detail/en/bourns-inc/SMAJ120CA/SMAJ120CABCT-ND/2253566; LastUpdated: 9/2/2020 1:27:55 AM; Lifecycle Status: Active; Minimum Order: 1; Mounting Type: Surface Mount; Operating Temperature: -55°C ~ 150°C (TJ); Package / Case: DO-214AC, SMA; Packaging: TapeAndReel; PartId: 7785; Part Status: Active; Price: 0.09; Series: SMAJ; Supplier 1: DigiKey; Supplier Part Number 1: SMAJ120CABCT-ND; Supplier Device Package: SMA (DO-214AC); Voltage - Clamping (Max) @ Ipp: 193V; Voltage - Reverse Standoff (Typ): 120V
footprint DO214AC SMA
pins: 1, 2

## SMAJ120CA-13-F
designator D?
TVS DIODE 120V 193V SMA; Manufacturer: Diodes Incorporated; Bidirectional Channels: 1; Current - Peak Pulse (10/1000µs): 2A; Power Line Protection: No; Power - Peak Pulse: 400W; Type: Zener; Voltage - Breakdown (Min): 133V; Part Number: SMAJ120CA-13-F; Applications: General Purpose; ComponentLink1Description: Datasheet; ComponentLink1URL: https://www.diodes.com/assets/Datasheets/ds19005.pdf; ComponentLink2Description: DigiKey Link; ComponentLink2URL: http://digikey.com/product-detail/en/diodes-incorporated/SMAJ120CA-13-F/SMAJ120CA-FDICT-ND/816000; LastUpdated: 9/2/2020 1:27:51 AM; Lifecycle Status: Active; Minimum Order: 1; Mounting Type: Surface Mount; Operating Temperature: -55°C ~ 150°C (TJ); Package / Case: DO-214AC, SMA; Packaging: TapeAndReel; PartId: 7348; Part Status: Active; Price: 0.09; Series: -; Supplier 1: DigiKey; Supplier Part Number 1: SMAJ120CA-FDICT-ND; Supplier Device Package: SMA; Voltage - Clamping (Max) @ Ipp: 193V; Voltage - Reverse Standoff (Typ): 120V
footprint DO214AC SMA
pins: 1, 2

## SMAJ120CA-E3/61
designator D?
TVS DIODE 120V 193V DO214AC; Manufacturer: Vishay Semiconductor Diodes Division; Bidirectional Channels: 1; Current - Peak Pulse (10/1000µs): 1.6A; Power Line Protection: No; Power - Peak Pulse: 300W; Type: Zener; Voltage - Breakdown (Min): 133V; Part Number: SMAJ120CA-E3/61; Applications: General Purpose; ComponentLink1Description: Datasheet; ComponentLink1URL: http://www.vishay.com/docs/88390/smaj50a.pdf; ComponentLink2Description: DigiKey Link; ComponentLink2URL: http://digikey.com/product-detail/en/vishay-semiconductor-diodes-division/SMAJ120CA-E3-61/SMAJ120CA-E3-61GICT-ND/5639147; LastUpdated: 9/2/2020 1:27:55 AM; Lifecycle Status: Active; Minimum Order: 1; Mounting Type: Surface Mount; Operating Temperature: -55°C ~ 150°C (TJ); Package / Case: DO-214AC, SMA; Packaging: TapeAndReel; PartId: 7822; Part Status: Active; Price: 0.10; Series: TransZorb®; Supplier 1: DigiKey; Supplier Part Number 1: SMAJ120CA-E3/61GICT-ND; Supplier Device Package: DO-214AC (SMA); Voltage - Clamping (Max) @ Ipp: 193V; Voltage - Reverse Standoff (Typ): 120V
footprint DO214AC SMA
pins: 1, 2

## SMAJ120CA-TP
designator D?
TVS DIODE 120V 193V DO214AC; Manufacturer: Micro Commercial Co; Bidirectional Channels: 1; Current - Peak Pulse (10/1000µs): 2.1A; Power Line Protection: No; Power - Peak Pulse: 400W; Type: Zener; Voltage - Breakdown (Min): 133V; Part Number: SMAJ120CA-TP; Applications: General Purpose; ComponentLink1Description: Datasheet; ComponentLink1URL: https://www.mccsemi.com/pdf/Products/SMAJ5.0~SMAJ440CA(SMA)-J.pdf; ComponentLink2Description: DigiKey Link; ComponentLink2URL: http://digikey.com/product-detail/en/micro-commercial-co/SMAJ120CA-TP/SMAJ120CA-TPMSCT-ND/1200625; LastUpdated: 9/2/2020 1:27:53 AM; Lifecycle Status: Active; Minimum Order: 1; Mounting Type: Surface Mount; Operating Temperature: -55°C ~ 175°C (TA); Package / Case: DO-214AC, SMA; Packaging: TapeAndReel; PartId: 7644; Part Status: Active; Price: 0.10; Series: -; Supplier 1: DigiKey; Supplier Part Number 1: SMAJ120CA-TPMSCT-ND; Supplier Device Package: DO-214AC (SMA); Voltage - Clamping (Max) @ Ipp: 193V; Voltage - Reverse Standoff (Typ): 120V
footprint DO214AC SMA
pins: 1, 2

## SMAJ120CAHR3G
designator D?
TVS DIODE 120V 193V DO214AC; Manufacturer: Taiwan Semiconductor Corporation; Bidirectional Channels: 1; Current - Peak Pulse (10/1000µs): 1.6A; Power Line Protection: No; Power - Peak Pulse: 400W; Type: Zener; Voltage - Breakdown (Min): 133V; Part Number: SMAJ120CAHR3G; Applications: Automotive; ComponentLink1Description: Datasheet; ComponentLink1URL: https://www.taiwansemi.com/products/datasheet/SMAJ%20SERIES_S1901.pdf; ComponentLink2Description: DigiKey Link; ComponentLink2URL: http://digikey.com/product-detail/en/taiwan-semiconductor-corporation/SMAJ120CAHR3G/SMAJ120CAHR3GCT-ND/10287904; LastUpdated: 9/2/2020 1:27:54 AM; Lifecycle Status: Active; Minimum Order: 1; Mounting Type: Surface Mount; Operating Temperature: -55°C ~ 150°C (TJ); Package / Case: DO-214AC, SMA; Packaging: TapeAndReel; PartId: 7715; Part Status: Active; Price: 0.12; Series: Automotive, AEC-Q101, SMAJ; Supplier 1: DigiKey; Supplier Part Number 1: SMAJ120CAHR3GCT-ND; Supplier Device Package: DO-214AC (SMA); Voltage - Clamping (Max) @ Ipp: 193V; Voltage - Reverse Standoff (Typ): 120V
footprint DO214AC SMA
pins: 1, 2

## SMAJ120CHR3G
designator D?
400W 148V 10% BIDIRECTIONAL TVS; Manufacturer: Taiwan Semiconductor Corporation; Bidirectional Channels: 1; Current - Peak Pulse (10/1000µs): 1.4A; Power Line Protection: No; Type: Zener; Voltage - Breakdown (Min): 133V; Voltage - Clamping (Max) @ Ipp: 214V; Voltage - Reverse Standoff (Typ): 120V; Part Number: SMAJ120CHR3G; Applications: Automotive; ComponentLink1Description: Datasheet; ComponentLink1URL: https://www.taiwansemi.com/products/datasheet/SMAJ%20SERIES_S1901.pdf; ComponentLink2Description: DigiKey Link; ComponentLink2URL: http://digikey.com/product-detail/en/taiwan-semiconductor-corporation/SMAJ120CHR3G/SMAJ120CHR3GCT-ND/10287821; LastUpdated: 9/2/2020 1:27:54 AM; Lifecycle Status: Active; Minimum Order: 1; Mounting Type: Surface Mount; Operating Temperature: -55°C ~ 150°C (TJ); Package / Case: DO-214AC, SMA; Packaging: TapeAndReel; PartId: 7752; Part Status: Active; Power - Peak Pulse: 400W; Price: 0.11; Series: Automotive, AEC-Q101, SMAJ; Supplier 1: DigiKey; Supplier Part Number 1: SMAJ120CHR3GCT-ND; Supplier Device Package: DO-214AC (SMA)
footprint DO214AC SMA
pins: 1, 2

## SMAJ120HR3G
designator D?
400W 148V 10% UNIDIRECTIONAL TVS; Manufacturer: Taiwan Semiconductor Corporation; Current - Peak Pulse (10/1000µs): 1.4A; Power Line Protection: No; Type: Zener; Unidirectional Channels: 1; Voltage - Breakdown (Min): 133V; Voltage - Clamping (Max) @ Ipp: 214V; Voltage - Reverse Standoff (Typ): 120V; Part Number: SMAJ120HR3G; Applications: Automotive; ComponentLink1Description: Datasheet; ComponentLink1URL: https://www.taiwansemi.com/products/datasheet/SMAJ%20SERIES_S1901.pdf; ComponentLink2Description: DigiKey Link; ComponentLink2URL: http://digikey.com/product-detail/en/taiwan-semiconductor-corporation/SMAJ120HR3G/SMAJ120HR3GCT-ND/10287822; LastUpdated: 9/2/2020 1:20:17 AM; Lifecycle Status: Active; Minimum Order: 1; Mounting Type: Surface Mount; Operating Temperature: -55°C ~ 150°C (TJ); Package / Case: DO-214AC, SMA; Packaging: TapeAndReel; PartId: 6022; Part Status: Active; Power - Peak Pulse: 400W; Price: 0.12; Series: Automotive, AEC-Q101, SMAJ; Supplier 1: DigiKey; Supplier Part Number 1: SMAJ120HR3GCT-ND; Supplier Device Package: DO-214AC (SMA)
footprint DO214AC SMA
pins: 1, 2

## SMAJ130A
designator D?
TVS DIODE 130V 209V SMA; Manufacturer: Bourns Inc.; Current - Peak Pulse (10/1000µs): 1.9A; Power Line Protection: No; Power - Peak Pulse: 400W; Type: Zener; Unidirectional Channels: 1; Voltage - Breakdown (Min): 144V; Part Number: SMAJ130A; Applications: General Purpose; ComponentLink1Description: Datasheet; ComponentLink1URL: https://www.bourns.com/docs/Product-Datasheets/SMAJ.pdf; ComponentLink2Description: DigiKey Link; ComponentLink2URL: http://digikey.com/product-detail/en/bourns-inc/SMAJ130A/SMAJ130ABCT-ND/2253538; LastUpdated: 9/2/2020 1:20:15 AM; Lifecycle Status: Active; Minimum Order: 1; Mounting Type: Surface Mount; Operating Temperature: -55°C ~ 150°C (TJ); Package / Case: DO-214AC, SMA; Packaging: TapeAndReel; PartId: 5853; Part Status: Active; Price: 0.09; Series: SMAJ; Supplier 1: DigiKey; Supplier Part Number 1: SMAJ130ABCT-ND; Supplier Device Package: SMA (DO-214AC); Voltage - Clamping (Max) @ Ipp: 209V; Voltage - Reverse Standoff (Typ): 130V
footprint DO214AC SMA
pins: 1, 2

## SMAJ130A-13-F
designator D?
TVS DIODE 130V 209V SMA; Manufacturer: Diodes Incorporated; Current - Peak Pulse (10/1000µs): 1.9A; Power Line Protection: No; Power - Peak Pulse: 400W; Type: Zener; Unidirectional Channels: 1; Voltage - Breakdown (Min): 144V; Part Number: SMAJ130A-13-F; Applications: General Purpose; ComponentLink1Description: Datasheet; ComponentLink1URL: https://www.diodes.com/assets/Datasheets/ds19005.pdf; ComponentLink2Description: DigiKey Link; ComponentLink2URL: http://digikey.com/product-detail/en/diodes-incorporated/SMAJ130A-13-F/SMAJ130A-FDICT-ND/816002; LastUpdated: 9/2/2020 1:20:18 AM; Lifecycle Status: Active; Minimum Order: 1; Mounting Type: Surface Mount; Operating Temperature: -55°C ~ 150°C (TJ); Package / Case: DO-214AC, SMA; Packaging: TapeAndReel; PartId: 6198; Part Status: Active; Price: 0.08; Series: -; Supplier 1: DigiKey; Supplier Part Number 1: SMAJ130A-FDICT-ND; Supplier Device Package: SMA; Voltage - Clamping (Max) @ Ipp: 209V; Voltage - Reverse Standoff (Typ): 130V
footprint DO214AC SMA
pins: 1, 2